# Altium schematic symbol library INCLib.SchLib: 3 symbols
Pins are listed as number, name and electrical type; pins without a type are passive.

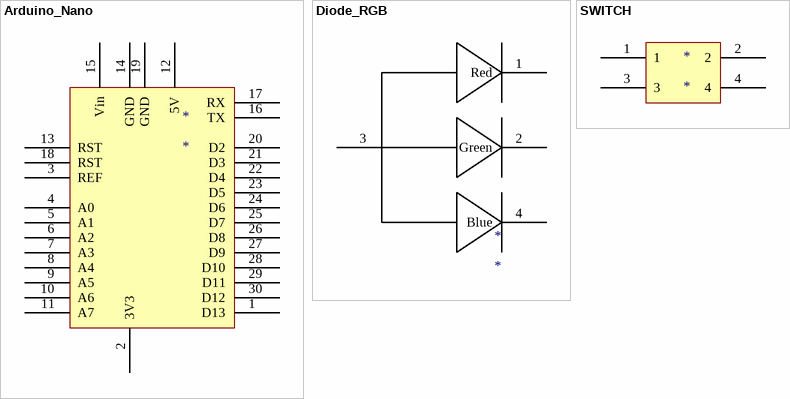
[diagram p0: symbols Arduino_Nano to SWITCH]

## Arduino_Nano
designator *
footprint Arduino_Nano
pins: 1 D13, 2 3V3 (power), 3 REF (power), 4 A0, 5 A1, 6 A2, 7 A3, 8 A4, 9 A5, 10 A6, 11 A7, 12 5V (power), 13 RST, 14 GND (power), 15 Vin (power), 16 TX, 17 RX, 18 RST, 19 GND (power), 20 D2, 21 D3, 22 D4, 23 D5, 24 D6, 25 D7, 26 D8, 27 D9, 28 D10, 29 D11, 30 D12

## Diode_RGB
designator *
pins: 1 Red, 2 Green, 3 Pol, 4 Blue

## SWITCH
designator *
footprint Switch
pins: 1, 2, 3, 4